# EAGLE library part MFRC522 (library Dennistries-Josh)
MRFC522 RFID Chip
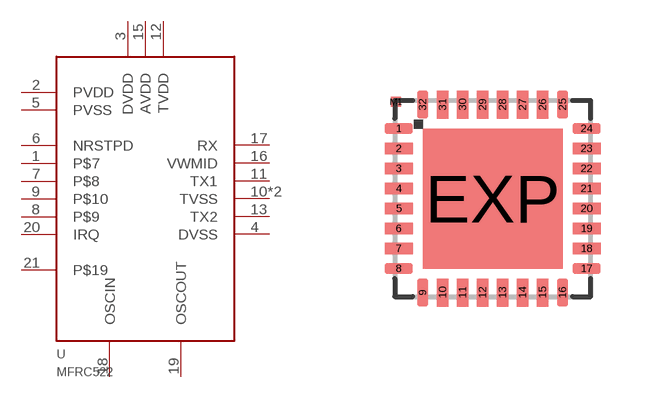
[diagram p53: symbol with the pads of HVQFN32; footprint HVQFN32]

Designator prefix -

## MFRC522  [HVQFN32]
1  P$7
2  PVDD
3  DVDD
4  DVSS
5  PVSS
6  NRSTPD
7  P$8
8  P$9
9  P$10
10  TVSS
11  TX1
12  TVDD
13  TX2
14  TVSS
15  AVDD
16  VWMID
17  RX
18  OSCIN
19  OSCOUT
20  IRQ
21  P$19

## Footprint HVQFN32 (pad centres in mm)
HVQFN32 (SOT617-3) 5 x 5 x .85 mm, Pitch 0.5mm Source: http://www.semiconductors.philips.com/acrobat_download/datasheets/TDA9885_TDA9886_2.pdf
smd 0.7 x 0.28: 1 -2.35,1.75; 2 -2.35,1.25; 3 -2.35,0.75; 4 -2.35,0.25; 5 -2.35,-0.25; 6 -2.35,-0.75; 7 -2.35,-1.25; 8 -2.35,-1.75; 17 2.35,-1.75; 18 2.35,-1.25; 19 2.35,-0.75; 20 2.35,-0.25; 21 2.35,0.25; 22 2.35,0.75; 23 2.35,1.25; 24 2.35,1.75
smd 0.28 x 0.7: 9 -1.75,-2.35; 10 -1.25,-2.35; 11 -0.75,-2.35; 12 -0.25,-2.35; 13 0.25,-2.35; 14 0.75,-2.35; 15 1.25,-2.35; 16 1.75,-2.35; 25 1.75,2.35; 26 1.25,2.35; 27 0.75,2.35; 28 0.25,2.35; 29 -0.25,2.35; 30 -0.75,2.35; 31 -1.25,2.35; 32 -1.75,2.35
smd 3.5 x 3.5: EXP 0,0
smd 0.25 x 0.25: M1 -2.415,2.415